# Altium schematic symbol library resistor_0.063w.SchLib: 1 symbol
Pins are listed as number, name and electrical type; pins without a type are passive.

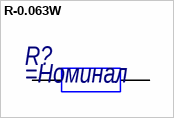
[diagram p0: symbol R-0.063W]

## R-0.063W
designator R?
=Описание
pins: 1, 2